# Altium footprint library Capacitors$.PcbLib: 48 footprints (part 3 of 3)
Each footprint in its own frame and in the unit in brackets; x right, y up, seen from the top. Pads: shape width x height; smd on the part's side, far side on the other; paste and mask are expansions set on the pad; w line width, h text height; cw(c..) or ccw(c..) is an arc to the next point about the centre after c.
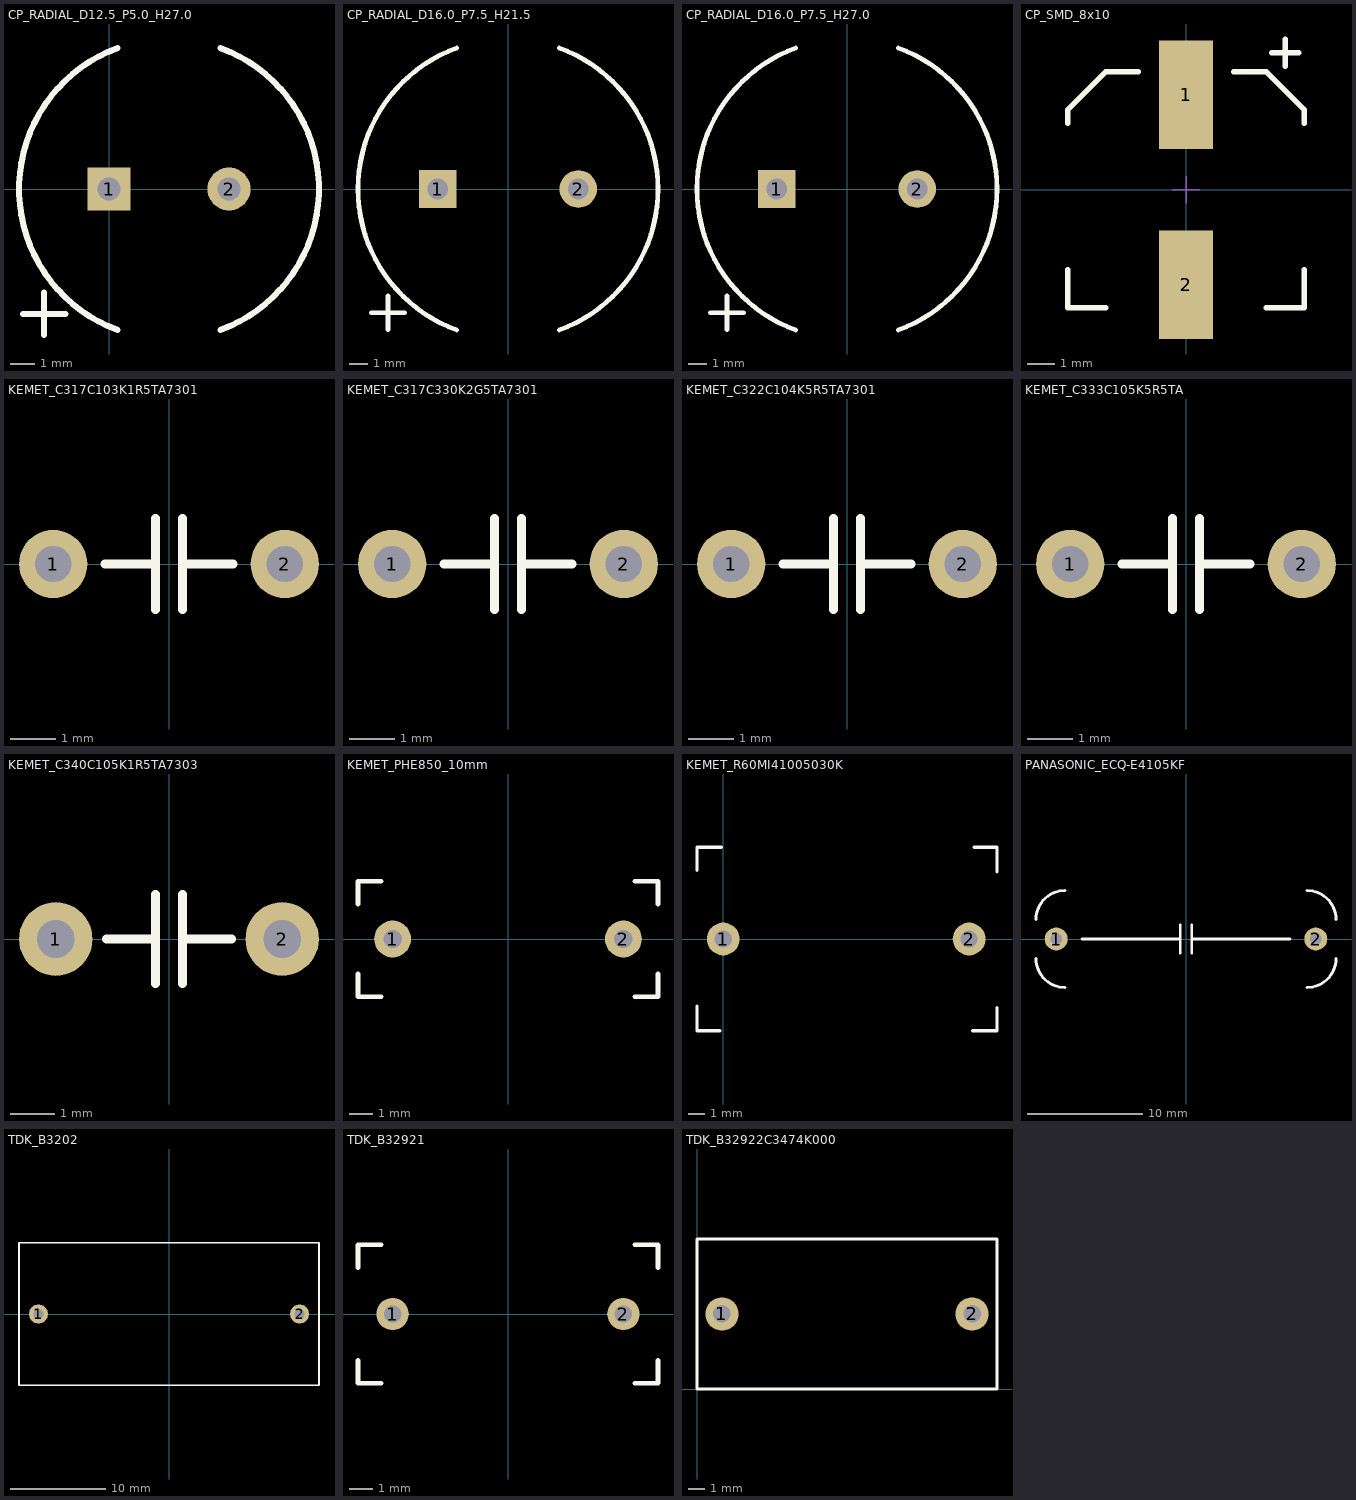
[diagram p2: the footprints below, top view; thin cyan lines are the x and y axes]

## CP_RADIAL_D12.5_P5.0_H27.0 [mm] "2 Leaded Al Cap, 5mm spacing, 12.5mm diameter"
height 20
pads (2):
  rect 1.8x1.8 hole 0.95: 1(0,0)
  round 1.8 hole 0.95: 2(5,0)
Top Overlay:
  lines w0.254: -3.589,-5.2 -1.811,-5.2 ; -2.7,-6.089 -2.7,-4.311 ; 0.362,-5.873 cw(c2.5,0) 0.362,5.873 ; 4.638,-5.873 ccw(c2.5,0) 4.638,5.873
3D body: height 27, standoff 0, extent -3.75,-6.246 8.75,6.247

## CP_RADIAL_D16.0_P7.5_H21.5 [mm]
pads (2):
  rect 2x2 hole 1.1: 1(-3.75,0)
  round 2 hole 1.1: 2(3.75,0)
Top Overlay:
  lines w0.254: -7.289,-6.6 -5.511,-6.6 ; -6.4,-7.489 -6.4,-5.711 ; -2.736,-7.518 cw(c0,0) -2.736,7.518 ; 2.736,-7.518 ccw(c0,0) 2.736,7.518
3D body: height 21.5, standoff 0, extent -8,-8 8,8

## CP_RADIAL_D16.0_P7.5_H27.0 [mm]
pads (2):
  rect 2x2 hole 1.1: 1(-3.75,0)
  round 2 hole 1.1: 2(3.75,0)
Top Overlay:
  lines w0.254: -7.289,-6.6 -5.511,-6.6 ; -6.4,-7.489 -6.4,-5.711 ; -2.736,-7.518 cw(c0,0) -2.736,7.518 ; 2.736,-7.518 ccw(c0,0) 2.736,7.518
3D body: height 27, standoff 0, extent -8,-8 8,8

## CP_SMD_8x10 [mm] "8x10 SMD capacitor"
pads (2):
  rect 2x4 smd: 1(0,3.5) 2(0,-3.5)
Top Overlay:
  lines w0.2: -4.35,-2.95 -4.35,-4.35 -2.95,-4.35 ; -4.35,2.45 -4.35,2.95 -2.95,4.35 -1.75,4.35 ; 1.75,4.35 2.95,4.35 4.35,2.95 4.35,2.45 ; 2.95,-4.35 4.35,-4.35 4.35,-2.95 ; 3.15,5.05 4.15,5.05 ; 3.65,4.55 3.65,5.55
Mechanical 15:
  lines w0.05: -0.5,0 0.5,0 ; 0,-0.5 0,0.5
3D body "PCAP_8x10-ELECT_NCA.step": height 10.34, standoff 0, extent -4.254,-4.648 4.254,4.648

## KEMET_C317C103K1R5TA7301 [mm]
pads (2):
  round 1.5 hole 0.8 unplated: 1(-2.54,0) 2(2.54,0)
Top Overlay:
  lines w0.2: -1.4,0 -0.3,0 ; -0.3,-1 -0.3,1 ; 0.3,-1 0.3,1 ; 0.3,0 1.4,0
3D body "C317C103K1R5TA7301.step": height 5.26, standoff -16.32, extent -2.79,-1.27 2.8,1.275

## KEMET_C317C330K2G5TA7301 [mm] "KEMET Goldmax C0G 300 Series"
pads (2):
  round 1.5 hole 0.8 unplated: 1(-2.54,0) 2(2.54,0)
Top Overlay:
  lines w0.2: -1.4,0 -0.3,0 ; -0.3,-1 -0.3,1 ; 0.3,-1 0.3,1 ; 0.3,0 1.4,0
3D body "C317C330K2G5TA7301.step": height 5.11, standoff -16.47, extent -2.795,-1.27 2.795,1.275

## KEMET_C322C104K5R5TA7301 [mm] "KEMET Goldmax X7R 300 Series"
pads (2):
  round 1.5 hole 0.8 unplated: 1(-2.54,0) 2(2.54,0)
Top Overlay:
  lines w0.2: -1.4,0 -0.3,0 ; -0.3,-1 -0.3,1 ; 0.3,-1 0.3,1 ; 0.3,0 1.4,0
3D body "C322C104K5R5TA7301.step": height 6.81, standoff -16.29, extent -2.795,-1.6 2.795,1.585

## KEMET_C333C105K5R5TA [mm] "KEMET Goldmax X7R 300 Series C333C105K5R5TA"
pads (2):
  round 1.5 hole 0.8 unplated: 1(-2.54,0) 2(2.54,0)
Top Overlay:
  lines w0.2: -1.4,0 -0.3,0 ; -0.3,-1 -0.3,1 ; 0.3,-1 0.3,1 ; 0.3,0 1.4,0
3D body "C322C104K5R5TA7301.step": height 6.81, standoff -16.29, extent -2.795,-1.6 2.795,1.585

## KEMET_C340C105K1R5TA7303 [mm] "KEMET Goldmax X7R 300 Series C340C105K1R5TA7303"
pads (2):
  round 1.65 hole 0.85 unplated: 1(-2.54,0) 2(2.54,0)
Top Overlay:
  lines w0.2: -1.4,0 -0.3,0 ; -0.3,-1 -0.3,1 ; 0.3,-1 0.3,1 ; 0.3,0 1.4,0
3D body "C340C105K1R5TA7303.step": height 10.47, standoff -17.69, extent -3.68,-2 3.68,2.075

## KEMET_PHE850_10mm [mm] "KEMET PHE850 10mm Lead spacing"
pads (2):
  round 1.6 hole 0.8: 1(-5,0) 2(5,0)
Top Overlay:
  lines w0.2: -6.5,-1.5 -6.5,-2.5 -5.5,-2.5 ; -6.5,1.5 -6.5,2.5 -5.5,2.5 ; 5.5,-2.5 6.5,-2.5 6.5,-1.5 ; 5.5,2.5 6.5,2.5 6.5,1.5
3D body: height 12, standoff 0, extent -6.5,-2.5 6.5,2.5

## KEMET_R60MI41005030K [mm] "Kemet R60 series film capacitor"
pads (2):
  round 2 hole 1.05: 1(0,0) 2(15,0)
Top Overlay:
  lines w0.2: -1.6,-4.1 -1.6,-5.6 -0.2,-5.6 ; -1.6,4.2 -1.6,5.6 -0.1,5.6 ; 15.2,-5.6 16.7,-5.6 16.7,-4.2 ; 15.3,5.6 16.7,5.6 16.7,4.1
3D body "R60MI41005030K.step": height 19.1, standoff -27, extent -1.6,-5.605 16.7,5.6

## PANASONIC_ECQ-E4105KF [mm]
pads (2):
  round 2 hole 1: 1(-11.25,0) 2(11.25,0)
Top Overlay:
  lines w0.25: -13,-1.7 ccw(c-10.5,-1.7) -10.5,-4.2 ; -13,1.7 cw(c-10.5,1.7) -10.5,4.2 ; -9,0 -0.5,0 ; -0.5,-1.2 -0.5,1.2 ; 0.5,-1.2 0.5,1.2 ; 0.5,0 9,0 ; 10.5,-4.2 ccw(c10.5,-1.7) 13,-1.7 ; 10.5,4.2 cw(c10.5,1.7) 13,1.7
3D body: height 18, standoff 0, extent -13,-4.2 13,4.2

## PCBComponent_1 [mm]

## TDK_B3202 [mm] "TDK B3202 series class Y2 filter caps"
pads (2):
  round 2 hole 1.05: 1(-13.75,0) 2(13.75,0)
Top Overlay:
  lines w0.2: -15.8,-7.5 15.8,-7.5 15.8,7.5 -15.8,7.5 -15.8,-7.5
3D body: height 24.5, standoff 0, extent -15.75,-7.5 15.8,7.5

## TDK_B32921 [mm] "TDK X2 Film Cap, 10mm Lead Spacing"
pads (2):
  round 1.4 hole 0.75: 1(-5,0) 2(5,0)
Top Overlay:
  lines w0.2: -6.5,-2 -6.5,-3 -5.5,-3 ; -6.5,2 -6.5,3 -5.5,3 ; 5.5,-3 6.5,-3 6.5,-2 ; 5.5,3 6.5,3 6.5,2
3D body: height 12, standoff 0, extent -6.5,-3 6.5,3

## TDK_B32922C3474K000 [mm] "TDK Film Capacitor"
pads (2):
  round 2 hole 1.05: 1(1.5,4.5) 2(16.5,4.5)
Top Overlay:
  lines w0.2: 0,0 18,0 18,9 0,9 0,0
3D body: height 17.5, standoff 0, extent 0,0 18,9